# Altium schematic symbol library PA93.SchLib: 3 symbols
Pins are listed as number, name and electrical type; pins without a type are passive.

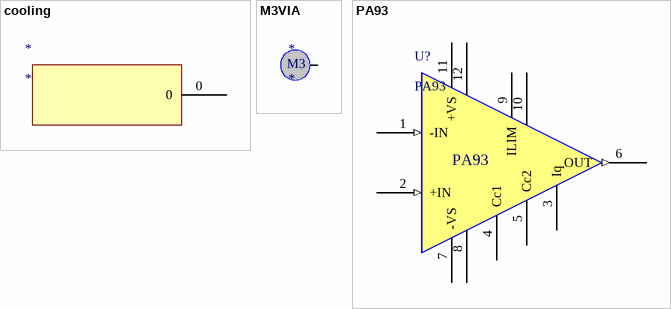
[diagram p0: symbols cooling to PA93]

## cooling
designator *
footprint cooling
pins: 0

## M3VIA
designator *
footprint gudingkong
footprint gudingkong01
pins: 0
text: M3

## PA93
designator U?
simulation model PA93 (REVISION 2 18-MAR-2002)
footprint HDR1X12
pins: 1 -IN (in), 2 +IN (in), 3 Iq, 4 Cc1, 5 Cc2, 6 OUT (out), 7 -VS, 8 -VS, 9 ILIM, 10 ILIM, 11 +VS, 12 +VS